# Altium footprint library CONNECTOR_RJ45.PcbLib: 2 footprints
Each footprint in its own frame and in the unit in brackets; x right, y up, seen from the top. Pads: shape width x height; smd on the part's side, far side on the other; paste and mask are expansions set on the pad; w line width, h text height; cw(c..) or ccw(c..) is an arc to the next point about the centre after c.
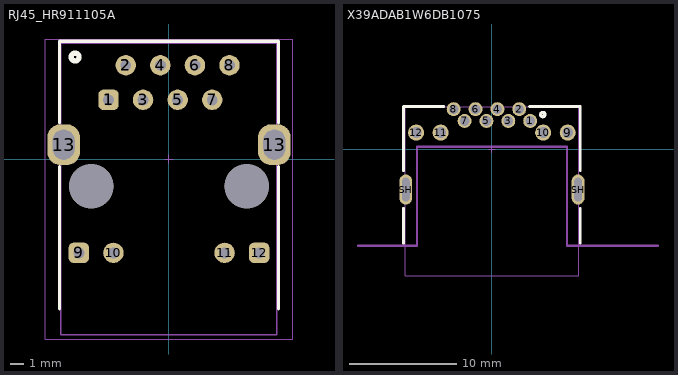
[diagram p0: the footprints below, top view; thin cyan lines are the x and y axes]

## RJ45_HR911105A [mm]
pads (18):
  rrect50% 1.5x1.5 hole 0.8: 1(-4.445,4.355) 1(-4.445,4.355) 9(-6.625,-6.895) 12(6.625,-6.895)
  round 1.5 hole 0.8: 2(-3.175,6.895) 2(-3.175,6.895) 3(-1.905,4.355) 4(-0.635,6.895) 5(0.635,4.355) 6(1.905,6.895) 7(3.175,4.355) 8(4.445,6.895) 10(-4.085,-6.895) 11(4.085,-6.895)
  rrect80% 2.4x3 hole 1.6 slot 2.2 at 90 deg: 13(-7.745,1.055) 13(7.745,1.055)
  round 3.25 hole 3.25 unplated: ""(-5.715,-1.995) ""(5.715,-1.995)
Top Overlay:
  circle w0.25: c-6.9,7.5 r0.361
  circle w0.25: c-6.9,7.5 r0.224
  lines w0.25: -8.05,-11 -8.05,-0.575 ; -8.05,2.675 -8.05,8.645 8.05,8.645 8.05,2.675 ; 8.05,-11 8.05,-0.575
Mechanical 13:
  lines w0.1: -7.95,-12.9 7.925,-12.9 7.925,8.5 -7.95,8.5 -7.95,-0.425 -7.95,-12.9
Mechanical 15:
  lines w0.05: -0.3,0 0.3,0 ; 0,-0.3 0,0.3 ; -9.1,-13.225 9.1,-13.225 9.1,8.825 -9.1,8.825 -9.1,0.8 -9.1,-13.225
3D body "User Library-HR911105A.STEP": height 13.5, standoff -3, extent -7.95,-12.9 7.93,8.5

## X39ADAB1W6DB1075 [mm] "Sinking plate RJ45 connector"
pads (14):
  round 1.3 hole 0.9: 1(3.57,2.65) 2(2.55,3.75) 3(1.53,2.65) 4(0.51,3.75) 5(-0.51,2.65) 6(-1.53,3.75) 7(-2.55,2.65) 8(-3.57,3.75)
  round 1.5 hole 1: 9(7.075,1.57) 10(4.785,1.57) 11(-4.785,1.57) 12(-7.075,1.57)
  oval 1.2x2.8 hole 0.7 slot 2.2 at 90 deg: SH(-8.04,-3.75) SH(8.04,-3.75)
Top Overlay:
  circle w0.3: c4.75,3.25 r0.2
  lines w0.25: -8.25,-8.75 -8.25,-5.5 ; -8.25,-2 -8.25,4 -4.5,4 ; 3.5,4 8.25,4 8.25,-2 ; 8.25,-8.75 8.25,-5.5
Mechanical 13:
  lines w0.2: -12.5,-9 -7,-9 -7,0.25 7,0.25 7,-9 15.5,-9
  text "PCB Edge" at 7.754,-8.163 h1
Mechanical 15:
  lines w0.05: -0.3,0 0.3,0 ; 0,-0.3 0,0.3 ; -8.1,-11.8 8.1,-11.8 8.1,4 -8.1,4 -8.1,-11.8
3D body "RJ45-TH_XKB_X39ADAB1W6DB1075.step": height 7.1, standoff -4, extent -8.1,-11.8 8.1,3.95